# EAGLE library part ADG3301BKSZ-REEL (library cyclops)
Logic Level Translator
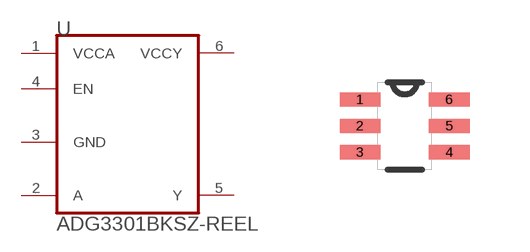
[diagram p19: symbol with the pads of SOT65P210X110-6N; footprint SOT65P210X110-6N]

Designator prefix U

## ADG3301BKSZ-REEL (MPN: ADG3301BKSZ-REEL; OC_FARNELL: -; OC_NEWARK: 74R5845; PACKAGE: SC-70-6; SUPPLIER: Analog Devices)  [SOT65P210X110-6N]
1  VCCA  pwr
2  A
3  GND  pas
4  EN  in
5  Y
6  VCCY  pwr

## Footprint SOT65P210X110-6N (pad centres in mm)
smd 1.016 x 0.356: 1 -1.118,0.66; 2 -1.118,0; 3 -1.118,-0.66; 4 1.118,-0.66; 5 1.118,0; 6 1.118,0.66